# Altium footprint library QFN65P800X800X100-45N-D.PcbLib: 1 footprints
Each footprint in its own frame and in the unit in brackets; x right, y up, seen from the top. Pads: shape width x height; smd on the part's side, far side on the other; paste and mask are expansions set on the pad; w line width, h text height; cw(c..) or ccw(c..) is an arc to the next point about the centre after c.
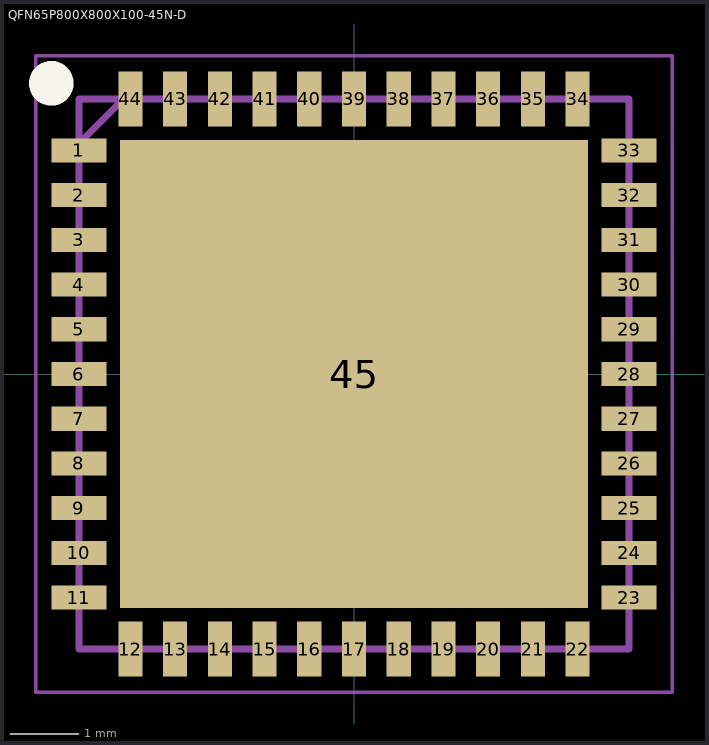
[diagram p0: the footprint, top view; thin cyan lines are the x and y axes]

## QFN65P800X800X100-45N-D [mm]
pads (45):
  rect 0.8x0.35 smd: 1(-4,3.25) 2(-4,2.6) 3(-4,1.95) 4(-4,1.3) 5(-4,0.65) 6(-4,0) 7(-4,-0.65) 8(-4,-1.3) 9(-4,-1.95) 10(-4,-2.6) 11(-4,-3.25) 23(4,-3.25) 24(4,-2.6) 25(4,-1.95) 26(4,-1.3) 27(4,-0.65) 28(4,0) 29(4,0.65) 30(4,1.3) 31(4,1.95) 32(4,2.6) 33(4,3.25)
  rect 0.35x0.8 smd: 12(-3.25,-4) 13(-2.6,-4) 14(-1.95,-4) 15(-1.3,-4) 16(-0.65,-4) 17(0,-4) 18(0.65,-4) 19(1.3,-4) 20(1.95,-4) 21(2.6,-4) 22(3.25,-4) 34(3.25,4) 35(2.6,4) 36(1.95,4) 37(1.3,4) 38(0.65,4) 39(0,4) 40(-0.65,4) 41(-1.3,4) 42(-1.95,4) 43(-2.6,4) 44(-3.25,4)
  rect 6.8x6.8 smd: 45(0,0)
Top Overlay:
  circle w0.325: c-4.4,4.225 r0.162
Mechanical 15:
  lines w0.1: -4,3.35 -3.35,4 ; -4,-4 4,-4 4,4 -4,4 -4,-4
Mechanical 20:
  lines w0.05: -4.625,-4.625 4.625,-4.625 4.625,4.625 -4.625,4.625 -4.625,-4.625